# Altium schematic symbol library UCC27517ADBVR.Schlib: 1 symbol
Pins are listed as number, name and electrical type; pins without a type are passive.

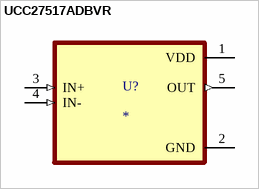
[diagram p0: symbol UCC27517ADBVR]

## UCC27517ADBVR
designator U?
4-A/4-A single-channel gate driver with 5-V UVLO and negative input voltage handling
pins: 1 VDD (power), 2 GND (power), 3 IN+ (in), 4 IN- (in), 5 OUT (out)